# Altium footprint library Nodemcu_esp8266.PcbLib: 2 footprints
Each footprint in its own frame and in the unit in brackets; x right, y up, seen from the top. Pads: shape width x height; smd on the part's side, far side on the other; paste and mask are expansions set on the pad; w line width, h text height; cw(c..) or ccw(c..) is an arc to the next point about the centre after c.
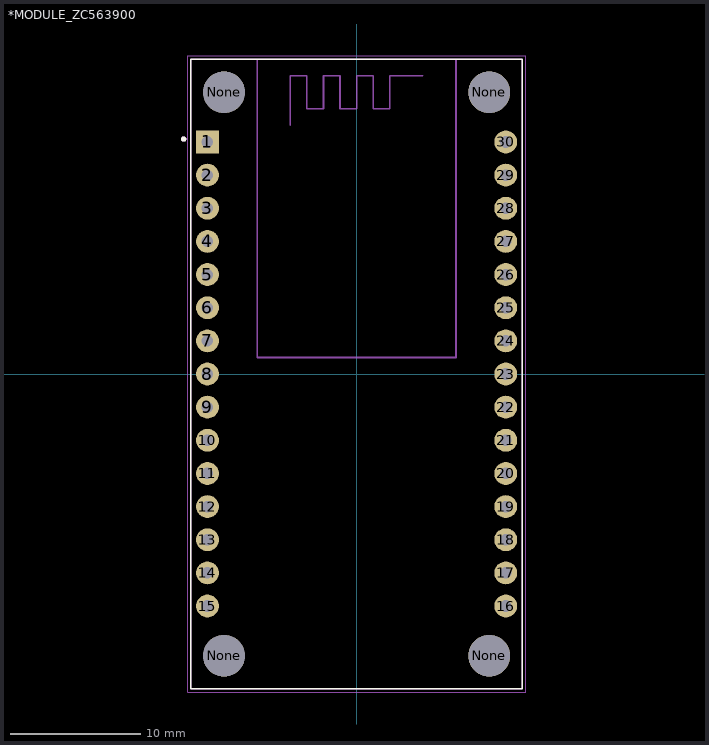
[diagram p0: the footprints below, top view; thin cyan lines are the x and y axes]

## *MODULE_ZC563900 [mil]
pads (34):
  rect 69x69 hole 35: 1(-450,700)
  round 69 hole 35: 2(-450,600) 3(-450,500) 4(-450,400) 5(-450,300) 6(-450,200) 7(-450,100) 8(-450,0) 9(-450,-100) 10(-450,-200) 11(-450,-300) 12(-450,-400) 13(-450,-500) 14(-450,-600) 15(-450,-700) 16(450,-700) 17(450,-600) 18(450,-500) 19(450,-400) 20(450,-300) 21(450,-200) 22(450,-100) 23(450,0) 24(450,100) 25(450,200) 26(450,300) 27(450,400) 28(450,500) 29(450,600) 30(450,700)
  round 125.98 hole 125.98 unplated: None(-400,-850) None(-400,850) None(400,-850) None(400,850)
Top Layer:
  text "Nodemcu_Esp8266" at -185,-238.33 h30
Top Overlay:
  circle w7.87: c-521.65,708.66 r3.94
  lines w5: -500,-950 500,-950 500,950 -500,950 -500,-950
Mechanical 4:
  circle w7.87: c-521.65,708.66 r3.94
  circle w7.87: c-521.65,708.66 r3.94
  lines w5: -500,-950 500,-950 ; -500,-950 -500,950 ; -500,-950 500,-950 ; -500,-950 -500,950 ; -500,950 -300,950 ; -500,950 -300,950 ; -300,50 300,50 ; -300,50 -300,950 ; -300,50 300,50 ; -300,50 -300,950 ; -300,950 300,950 ; -300,950 300,950 ; -200,900 -150,900 ; -200,900 -200,750 -200,900 ; -200,900 -150,900 ; -150,800 -100,800 ; -150,800 -150,900 ; -150,800 -100,800 ; -150,800 -150,900 ; -100,800 -100,900 ; -100,800 -100,900 ; -100,900 -50,900 ; -100,900 -50,900 ; -50,800 0,800 ; -50,800 -50,900 ; -50,800 0,800 ; -50,800 -50,900 ; 0,800 0,900 ; 0,800 0,900 ; 0,900 50,900 ; 0,900 50,900 ; 50,800 100,800 ; 50,800 50,900 ; 50,800 100,800 ; 50,800 50,900 ; 100,800 100,900 ; 100,800 100,900 ; 100,900 200,900 100,900 ; 300,50 300,950 ; 300,50 300,950 ; 300,950 500,950 ; 300,950 500,950 ; 500,-950 500,950 ; 500,-950 500,950
Mechanical 16:
  lines w1.97: -509.84,-959.84 -509.84,959.84 509.84,959.84 509.84,-959.84 -509.84,-959.84
3D body "NodeMCU HiLetgo ESP8266.STEP": height 190, standoff -310, extent -490,-960 510,953.83

## PCBComponent_1 [mil]